# EAGLE library part ABPDANT001PGAA5 (library Project2)
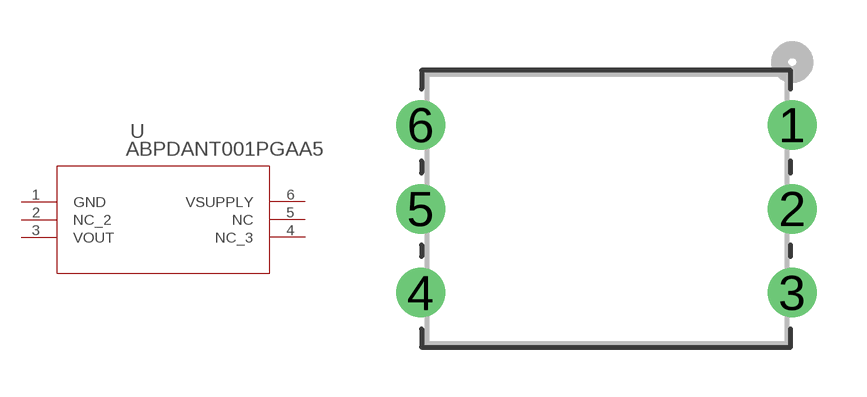
[diagram p2: symbol with the pads of ABPDAN_HNW; footprint ABPDAN_HNW]

Designator prefix U

## ABPDANT001PGAA5 (COPYRIGHT: Copyright (C) 2021 Ultra Librarian. All rights reserved.; MANUFACTURER_PART_NUMBER: ABPDANT005PGAA5; MFR_NAME: Honeywell)  [ABPDAN_HNW]
1  GND  pas
2  NC_2  nc
3  VOUT  out
4  NC_3  nc
5  NC  nc
6  VSUPPLY  pwr

## Footprint ABPDAN_HNW (pad centres in mm)
drill 0.991 pad 1.499: 1 0,0; 2 0,-2.54; 3 0,-5.08; 4 -11.252,-5.08; 5 -11.252,-2.54; 6 -11.252,0